# EAGLE library part IC_LMH6739 (library akita)
TI, 3xVideo Amp
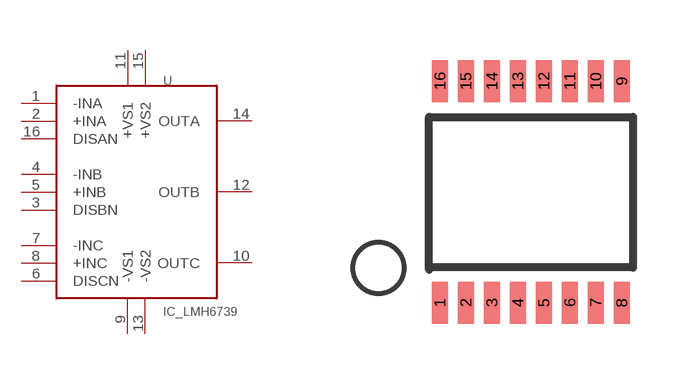
[diagram p149: symbol with the pads of TSSOP16; footprint TSSOP16]

Designator prefix U

## IC_LMH6739  [TSSOP16]
1  -INA
2  +INA
3  DISBN
4  -INB
5  +INB
6  DISCN
7  -INC
8  +INC
9  -VS1
10  OUTC
11  +VS1
12  OUTB
13  -VS2
14  OUTA
15  +VS2
16  DISAN

## Footprint TSSOP16 (pad centres in mm)
smd 0.4 x 1.05: 1 -2.275,-2.775; 2 -1.625,-2.775; 3 -0.975,-2.775; 4 -0.325,-2.775; 5 0.325,-2.775; 6 0.975,-2.775; 7 1.625,-2.775; 8 2.275,-2.775; 9 2.275,2.775; 10 1.625,2.775; 11 0.975,2.775; 12 0.325,2.775; 13 -0.325,2.775; 14 -0.975,2.775; 15 -1.625,2.775; 16 -2.275,2.775